# EAGLE library part SCU (library bluepill)
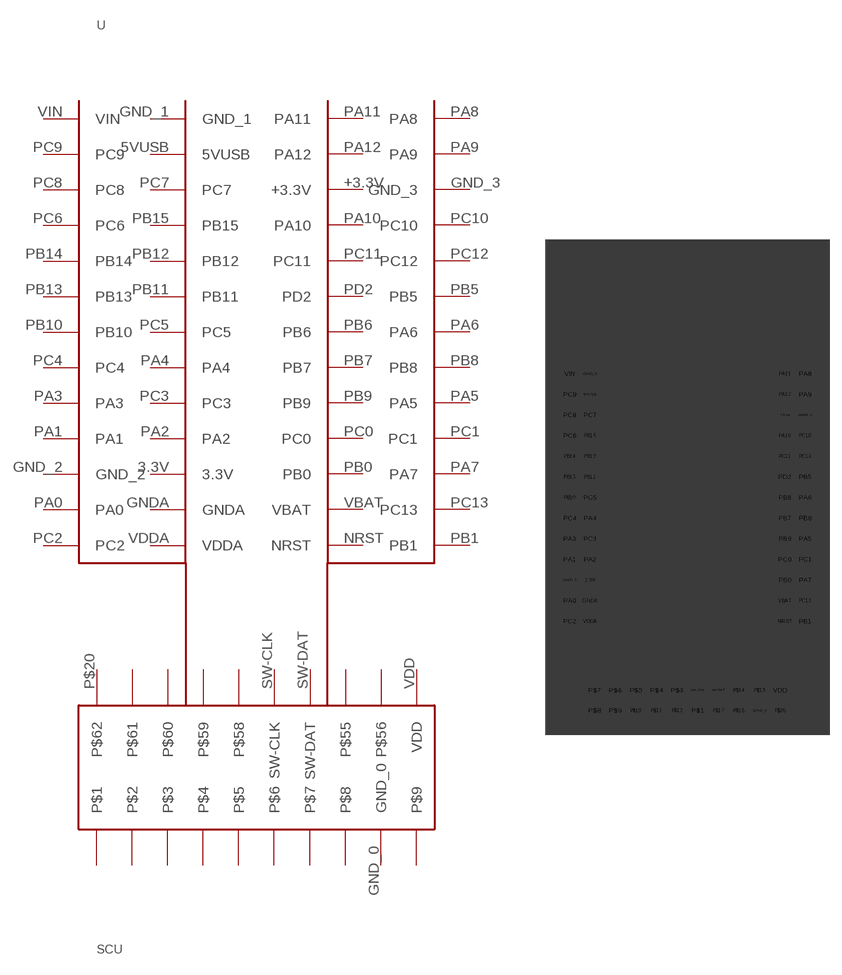
[diagram p7: symbol with the pads of SCU; footprint SCU]

Designator prefix -

## SCU  [SCU]
3.3V  3.3V
5VUSB  5VUSB
+3.3V  +3.3V
GND_0  GND_0
GND_1  GND_1
GND_2  GND_2
GND_3  GND_3
GNDA  GNDA
NRST  NRST
P$20  P$62
PA0  PA0
PA1  PA1
PA2  PA2
PA3  PA3
PA4  PA4
PA5  PA5
PA6  PA6
PA7  PA7
PA8  PA8
PA9  PA9
PA10  PA10
PA11  PA11
PA12  PA12
PB0  PB0
PB1  PB1
PB5  PB5
PB6  PB6
PB7  PB7
PB8  PB8
PB9  PB9
PB10  PB10
PB11  PB11
PB12  PB12
PB13  PB13
PB14  PB14
PB15  PB15
PC0  PC0
PC1  PC1
PC2  PC2
PC3  PC3
PC4  PC4
PC5  PC5
PC6  PC6
PC7  PC7
PC8  PC8
PC9  PC9
PC10  PC10
PC11  PC11
PC12  PC12
PC13  PC13
PD2  PD2
SW-CLK  SW-CLK
SW-DAT  SW-DAT
VBAT  VBAT
VDD  VDD
VDDA  VDDA
VIN  VIN

## Footprint SCU (pad centres in mm)
drill 0.8 square: 3.3V -12,-11.43; 5VUSB -12,11.43; +3.3V 12,8.89; GND_0 8.89,-27.5; GND_1 -12,13.97; GND_2 -14.5,-11.43; GND_3 14.5,8.89; GNDA -12,-13.97; NRST 12,-16.51; P$1 1.27,-27.5; P$3 -1.27,-25; P$4 -3.81,-25; P$5 -6.35,-25; P$6 -8.89,-25; P$7 -11.43,-25; P$8 -11.43,-27.5; P$9 -8.89,-27.5; P$10 -6.35,-27.5; P$11 -3.81,-27.5; P$12 -1.27,-27.5; P$14 6.35,-25; P$15 8.89,-25; P$17 3.81,-27.5; P$18 6.35,-27.5; P$20 11.43,-27.5; PA0 -14.5,-13.97; PA1 -14.5,-8.89; PA2 -12,-8.89; PA3 -14.5,-6.35; PA4 -12,-3.81; PA5 14.5,-6.35; PA6 14.5,-1.27; PA7 14.5,-11.43; PA8 14.5,13.97; PA9 14.5,11.43; PA10 12,6.35; PA11 12,13.97; PA12 12,11.43; PB0 12,-11.43; PB1 14.5,-16.51; PB5 14.5,1.27; PB6 12,-1.27; PB7 12,-3.81; PB8 14.5,-3.81; PB9 12,-6.35; PB10 -14.5,-1.27; PB11 -12,1.27; PB12 -12,3.81; PB13 -14.5,1.27; PB14 -14.5,3.81; PB15 -12,6.35; PC0 12,-8.89; PC1 14.5,-8.89; PC2 -14.5,-16.51; PC3 -12,-6.35; PC4 -14.5,-3.81; PC5 -12,-1.27; PC6 -14.5,6.35; PC7 -12,8.89; PC8 -14.5,8.89; PC9 -14.5,11.43; PC10 14.5,6.35; PC11 12,3.81; PC12 14.5,3.81; PC13 14.5,-13.97; PD2 12,1.27; SW-CLK 1.27,-25; SW-DAT 3.81,-25; VBAT 12,-13.97; VDD 11.43,-25; VDDA -12,-16.51; VIN -14.5,13.97